# Altium schematic symbol library SR SCH Library V02.SchLib: 689 symbols (part 3 of 3)
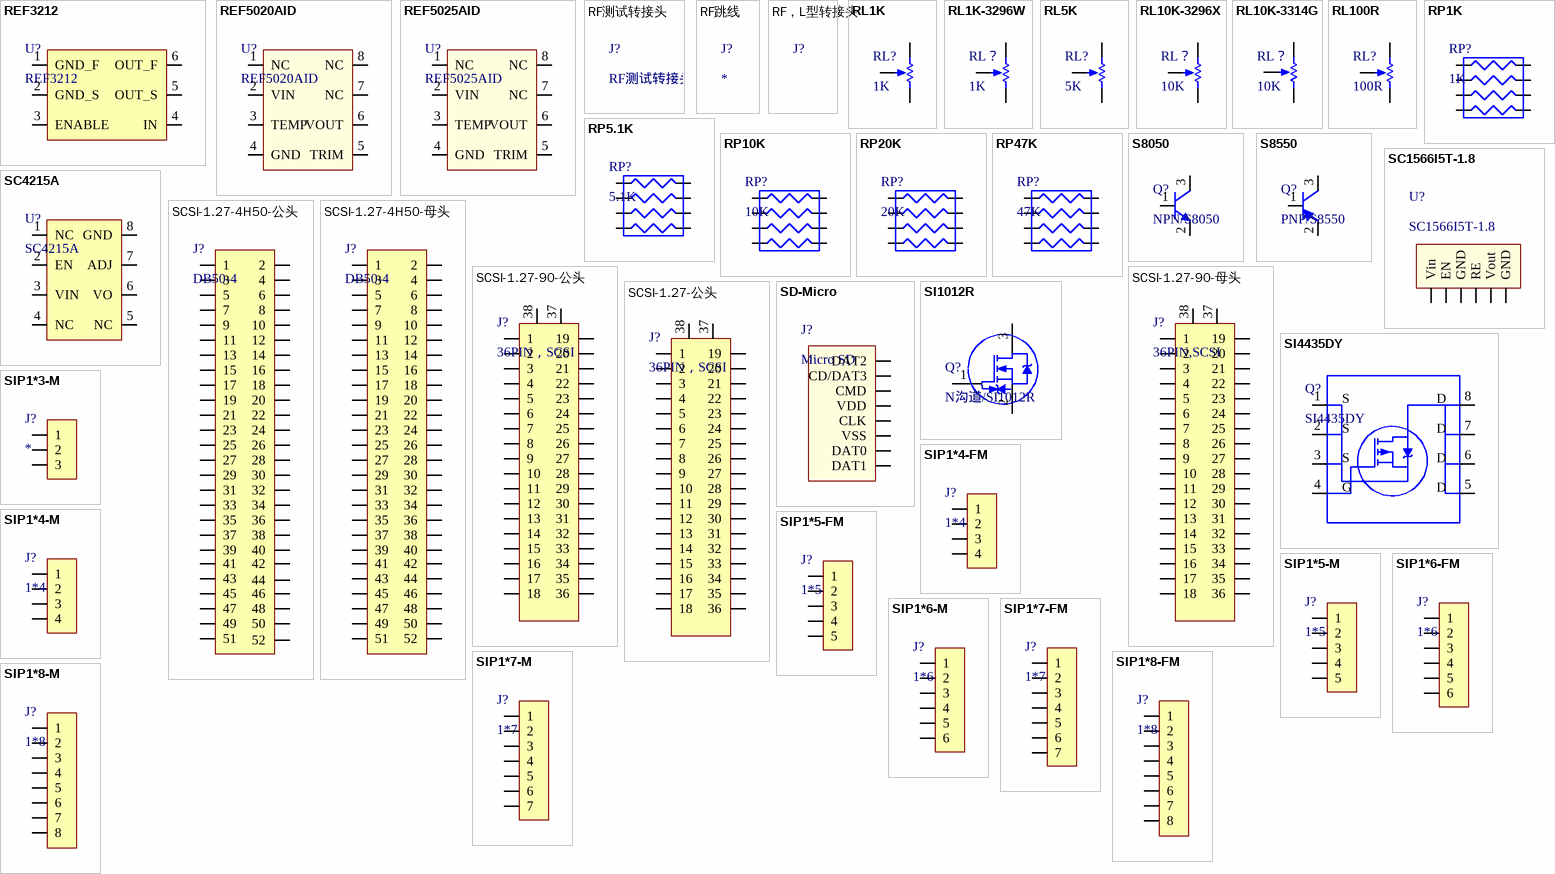
[diagram p20: symbols REF3212 to SIP1*8-M]

## SCSI-1.27-4H50-母头
designator J?, comment DB50-4
CONN,DB50-4排式，母头，SCSI连接器，1.27-4H50; 料号: 10701-00070-00; 品名: 线对板连接器
footprint SCSI母头-50P
pins: 1, 2, 3, 4, 5, 6, 7, 8, 9, 10, 11, 12, 13, 14, 15, 16, 17, 18, 19, 20, 21, 22, 23, 24, 25, 26, 27, 28, 29, 30, 31, 32, 33, 34, 35, 36, 37, 38, 39, 40, 41, 42, 43, 44, 45, 46, 47, 48, 49, 50, 51, 52

## SCSI-1.27-4H50-公头
designator J?, comment DB50-4
CONN,DB50-4排式，公头，SCSI连接器，1.27-4H50; 料号: 10701-00071-00; 品名: 线对板连接器
pins: 1, 2, 3, 4, 5, 6, 7, 8, 9, 10, 11, 12, 13, 14, 15, 16, 17, 18, 19, 20, 21, 22, 23, 24, 25, 26, 27, 28, 29, 30, 31, 32, 33, 34, 35, 36, 37, 38, 39, 40, 41, 42, 43, 44, 45, 46, 47, 48, 49, 50, 51, 52

## SCSI-1.27-90-母头
designator J?, comment 36PIN,SCSI
SCSI接头母头，36PIN，间距1.27mm，90度弯角插座; 料号: 10701-00075-00; 品名: 线对板连接器
footprint SCS母头-90
pins: 1, 2, 3, 4, 5, 6, 7, 8, 9, 10, 11, 12, 13, 14, 15, 16, 17, 18, 19, 20, 21, 22, 23, 24, 25, 26, 27, 28, 29, 30, 31, 32, 33, 34, 35, 36, 37, 38

## SCSI-1.27-90-公头
designator J?, comment 36PIN，SCSI
SCSI接头公头，36PIN，间距1.27mm，90度弯角插座; 料号: 10701-00038-00; 品名: 线对板连接器
footprint SCSI公头-90
pins: 1, 2, 3, 4, 5, 6, 7, 8, 9, 10, 11, 12, 13, 14, 15, 16, 17, 18, 19, 20, 21, 22, 23, 24, 25, 26, 27, 28, 29, 30, 31, 32, 33, 34, 35, 36, 37, 38

## SCSI-1.27-公头
designator J?, comment 36PIN，SCSI
SCSI接头公头，36PIN，间距1.27mm，锁螺丝固定式; 料号: 10701-00037-00; 品名: 线对板连接器
footprint SCSI公头
pins: 1, 2, 3, 4, 5, 6, 7, 8, 9, 10, 11, 12, 13, 14, 15, 16, 17, 18, 19, 20, 21, 22, 23, 24, 25, 26, 27, 28, 29, 30, 31, 32, 33, 34, 35, 36, 37, 38

## SD-Micro
designator J?, comment Micro SD
自弹Micro SD卡座，直立插件式，外焊; 料号: 10706-00001-0F; 品名: 卡座连接器
footprint TF-CARD
pins: 1 DAT2, 2 CD/DAT3, 3 CMD, 4 VDD, 5 CLK, 6 VSS, 7 DAT0, 8 DAT1

## SI1012R
designator Q?, comment N沟道/SI1012R
N沟道场效应管，SI1012R，SOT-416; 料号: 10503-00003-6J; 品名: N沟道场效应管
footprint SOT-416
pins: 1 G, 2 S, 3 D

## SI4435DY
designator Q?
IC,SI4435DY,SOP8; 料号: 10504-00004-00; 品名: P沟道MOSFET
footprint SOP8 (body:6mm)
pins: 1 S, 2 S, 3 S, 4 G, 5 D, 6 D, 7 D, 8 D

## SIP1*3-M
designator J?
单排针，1*3,2.54mm; 料号: 10701-00105-00; 品名: 线对板连接器
footprint SIP3-2.54mm
pins: 1, 2, 3

## SIP1*4-FM
designator J?, comment 1*4
单排母，1*4,2.54mm; 料号: 10701-00084-00; 品名: 线对板连接器
footprint SIP4-2.54mm
pins: 1, 2, 3, 4

## SIP1*4-M
designator J?, comment 1*4
单排针，1*4，2.54mm; 料号: 10701-00081-00; 品名: 线对板连接器
footprint SIP4-2.54mm
pins: 1, 2, 3, 4

## SIP1*5-FM
designator J?, comment 1*5
单排母，1*5,2.54mm; 料号: 10701-00085-00; 品名: 线对板连接器
pins: 1, 2, 3, 4, 5

## SIP1*5-M
designator J?, comment 1*5
单排针,1*5,2.54mm; 料号: 10701-00087-00; 品名: 线对板连接器
footprint SIP5-2.54mm
pins: 1, 2, 3, 4, 5

## SIP1*6-FM
designator J?, comment 1*6
单排母，1*6,2.54mm; 料号: 10701-00086-00; 品名: 线对板连接器
footprint SIP6-2.54mm
pins: 1, 2, 3, 4, 5, 6

## SIP1*6-M
designator J?, comment 1*6
单排针,1*6,2.54mm; 料号: 10701-00088-00; 品名: 线对板连接器
footprint SIP6-2.54mm
pins: 1, 2, 3, 4, 5, 6

## SIP1*7-FM
designator J?, comment 1*7
单排母,1*7,2.54mm; 料号: 10701-00090-00; 品名: 线对板连接器
footprint SIP7-2.54mm
pins: 1, 2, 3, 4, 5, 6, 7

## SIP1*7-M
designator J?, comment 1*7
单排针,1*7,2.54mm; 料号: 10701-00089-00; 品名: 线对板连接器
footprint SIP7-2.54mm
pins: 1, 2, 3, 4, 5, 6, 7

## SIP1*8-FM
designator J?, comment 1*8
单排母,1*8,2.54mm; 料号: 10701-00042-00; 品名: 线对板连接器
footprint SIP8-2.54mm
pins: 1, 2, 3, 4, 5, 6, 7, 8

## SIP1*8-M
designator J?, comment 1*8
单排针,1*8,2.54mm; 料号: 10701-00043-00; 品名: 线对板连接器
footprint SIP8-2.54mm
pins: 1, 2, 3, 4, 5, 6, 7, 8

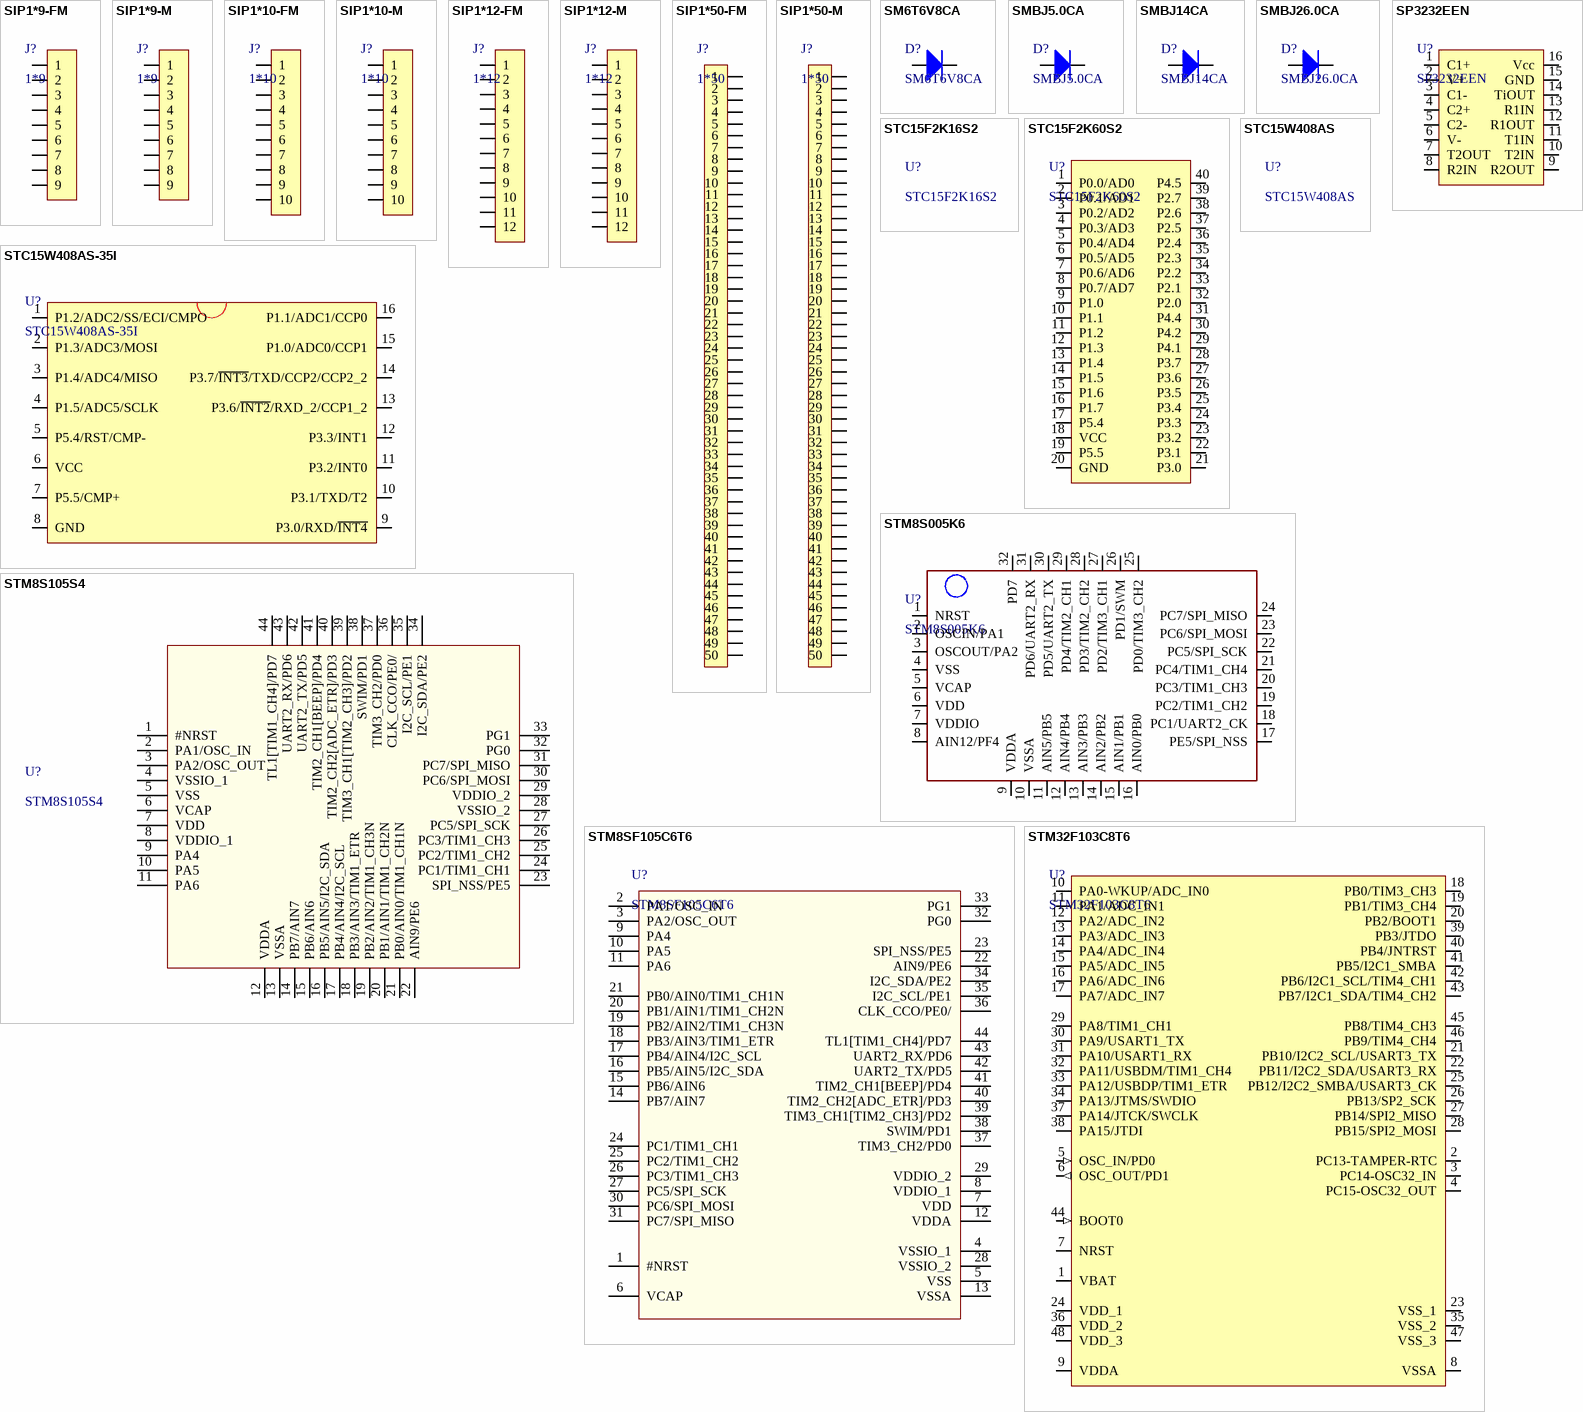
[diagram p16: symbols SIP1*9-FM to STM32F103C8T6]

## SIP1*9-FM
designator J?, comment 1*9
单排母,1*9,2.54mm; 料号: 10701-00044-00; 品名: 线对板连接器
footprint SIP9-2.54MM
pins: 1, 2, 3, 4, 5, 6, 7, 8, 9

## SIP1*9-M
designator J?, comment 1*9
单排针,1*9,2.54mm; 料号: 10701-00045-00; 品名: 线对板连接器
footprint SIP9-2.54MM
pins: 1, 2, 3, 4, 5, 6, 7, 8, 9

## SIP1*10-FM
designator J?, comment 1*10
单排母,1*10,2.54mm; 料号: 10701-00048-00; 品名: 线对板连接器
footprint SIP10-2.54mm
pins: 1, 2, 3, 4, 5, 6, 7, 8, 9, 10

## SIP1*10-M
designator J?, comment 1*10
单排针,1*10,2.54mm; 料号: 10701-00049-00; 品名: 线对板连接器
footprint SIP10-2.54mm
pins: 1, 2, 3, 4, 5, 6, 7, 8, 9, 10

## SIP1*12-FM
designator J?, comment 1*12
单排母,1*12,2.54mm; 料号: 10701-00052-00; 品名: 线对板连接器
footprint SIP12-2.54mm
pins: 1, 2, 3, 4, 5, 6, 7, 8, 9, 10, 11, 12

## SIP1*12-M
designator J?, comment 1*12
单排针,1*12,2.54mm; 料号: 10701-00053-00; 品名: 线对板连接器
footprint SIP12-2.54mm
pins: 1, 2, 3, 4, 5, 6, 7, 8, 9, 10, 11, 12

## SIP1*50-FM
designator J?, comment 1*50
单排母,1*50,2.54mm; 料号: 10701-00060-00; 品名: 线对板连接器
footprint SIP50-2.54MM
pins: 1, 2, 3, 4, 5, 6, 7, 8, 9, 10, 11, 12, 13, 14, 15, 16, 17, 18, 19, 20, 21, 22, 23, 24, 25, 26, 27, 28, 29, 30, 31, 32, 33, 34, 35, 36, 37, 38, 39, 40, 41, 42, 43, 44, 45, 46, 47, 48, 49, 50

## SIP1*50-M
designator J?, comment 1*50
单排针,1*50,2.54mm; 料号: 10701-00061-00; 品名: 线对板连接器
footprint SIP50-2.54MM
pins: 1, 2, 3, 4, 5, 6, 7, 8, 9, 10, 11, 12, 13, 14, 15, 16, 17, 18, 19, 20, 21, 22, 23, 24, 25, 26, 27, 28, 29, 30, 31, 32, 33, 34, 35, 36, 37, 38, 39, 40, 41, 42, 43, 44, 45, 46, 47, 48, 49, 50

## SM6T6V8CA
designator D?
TVS管，SM6T6V8CA，DO-214AA; 料号: 10405-00002-3H; 品名: TVS管
footprint DO-214AA(SMB) (稳压管)
pins: 1 A, 2 K

## SMBJ5.0CA
designator D?
TVS管，SMBJ5.0CA，5V，DO-214AA; 料号: 10405-00006-00; 品名: TVS管
footprint DO-214AA(SMB) (稳压管)
pins: 1 A, 2 K

## SMBJ14CA
designator D?
TVS管，SMBJ14CA，14V，DO-214AA; 料号: 10405-00005-6J; 品名: TVS管
footprint DO-214AA(SMB) (稳压管)
pins: 1 A, 2 K

## SMBJ26.0CA
designator D?
TVS管，SMBJ26.0CA，5V，DO-214AA; 料号: 10405-00009-00; 品名: TVS管
footprint DO-214AA(SMB) (稳压管)
pins: 1 A, 2 K

## SP3232EEN
designator U?
IC，SP3232EEN，SOP16; 料号: 10606-00002-1L; 品名: 接口芯片
footprint SOP16 (引脚中心距50mil)
pins: 1 C1+, 2 V+, 3 C1-, 4 C2+, 5 C2-, 6 V-, 7 T2OUT, 8 R2IN, 9 R2OUT, 10 T2IN, 11 T1IN, 12 R1OUT, 13 R1IN, 14 TiOUT, 15 GND, 16 Vcc

## STC15F2K16S2
designator U?
STC15F2K16S2,LQFP32; 料号: 10601-00014-7H; 品名: MCU
footprint LQFP32

## STC15F2K60S2
designator U?
MCU,STC15F2K16S2,LQFP48; 料号: 10601-00010-7H; 品名: MCU
footprint LQFP48
pins: 1 P0.0/AD0, 2 P0.1/AD1, 3 P0.2/AD2, 4 P0.3/AD3, 5 P0.4/AD4, 6 P0.5/AD5, 7 P0.6/AD6, 8 P0.7/AD7, 9 P1.0, 10 P1.1, 11 P1.2, 12 P1.3, 13 P1.4, 14 P1.5, 15 P1.6, 16 P1.7, 17 P5.4, 18 VCC, 19 P5.5, 20 GND, 21 P3.0, 22 P3.1, 23 P3.2, 24 P3.3, 25 P3.4, 26 P3.5, 27 P3.6, 28 P3.7, 29 P4.1, 30 P4.2, 31 P4.4, 32 P2.0, 33 P2.1, 34 P2.2, 35 P2.3, 36 P2.4, 37 P2.5, 38 P2.6, 39 P2.7, 40 P4.5

## STC15W408AS
designator U?
MCU，STC15W408AS，QFN28-5*5; 料号: 10601-00013-7H; 品名: MCU

## STC15W408AS-35I
designator U?
MCU，STC15W408AS-35I，SOP16; 料号: 10601-00011-7H; 品名: MCU
footprint SOP16 (引脚中心距50mil)
pins: 1 P1.2/ADC2/SS/ECI/CMPO, 2 P1.3/ADC3/MOSI, 3 P1.4/ADC4/MISO, 4 P1.5/ADC5/SCLK, 5 P5.4/RST/CMP-, 6 VCC, 7 P5.5/CMP+, 8 GND, 9 P3.0/RXD/~{INT4}, 10 P3.1/TXD/T2, 11 P3.2/INT0, 12 P3.3/INT1, 13 P3.6/~{INT2}/RXD_2/CCP1_2, 14 P3.7/~{INT3}/TXD/CCP2/CCP2_2, 15 P1.0/ADC0/CCP1, 16 P1.1/ADC1/CCP0

## STM8S005K6
designator U?
MCU，STM8S005K6，LQFP32; 料号: 10601-00003-3H; 品名: MCU
footprint LQFP32
pins: 1 NRST, 2 OSCIN/PA1, 3 OSCOUT/PA2, 4 VSS, 5 VCAP, 6 VDD, 7 VDDIO, 8 AIN12/PF4, 9 VDDA, 10 VSSA, 11 AIN5/PB5, 12 AIN4/PB4, 13 AIN3/PB3, 14 AIN2/PB2, 15 AIN1/PB1, 16 AIN0/PB0, 17 PE5/SPI_NSS, 18 PC1/UART2_CK, 19 PC2/TIM1_CH2, 20 PC3/TIM1_CH3, 21 PC4/TIM1_CH4, 22 PC5/SPI_SCK, 23 PC6/SPI_MOSI, 24 PC7/SPI_MISO, 25 PD0/TIM3_CH2, 26 PD1/SWM, 27 PD2/TIM3_CH1, 28 PD3/TIM2_CH2, 29 PD4/TIM2_CH1, 30 PD5/UART2_TX, 31 PD6/UART2_RX, 32 PD7

## STM8S105S4
designator U?
MCU，STM8S105S4，LQFP44; 料号: 10601-00045-3H; 品名: MCU
footprint LQFP44
pins: 1 #NRST, 2 PA1/OSC_IN, 3 PA2/OSC_OUT, 4 VSSIO_1, 5 VSS, 6 VCAP, 7 VDD, 8 VDDIO_1, 9 PA4, 10 PA5, 11 PA6, 12 VDDA, 13 VSSA, 14 PB7/AIN7, 15 PB6/AIN6, 16 PB5/AIN5/I2C_SDA, 17 PB4/AIN4/I2C_SCL, 18 PB3/AIN3/TIM1_ETR, 19 PB2/AIN2/TIM1_CH3N, 20 PB1/AIN1/TIM1_CH2N, 21 PB0/AIN0/TIM1_CH1N, 22 AIN9/PE6, 23 SPI_NSS/PE5, 24 PC1/TIM1_CH1, 25 PC2/TIM1_CH2, 26 PC3/TIM1_CH3, 27 PC5/SPI_SCK, 28 VSSIO_2, 29 VDDIO_2, 30 PC6/SPI_MOSI, 31 PC7/SPI_MISO, 32 PG0, 33 PG1, 34 I2C_SDA/PE2, 35 I2C_SCL/PE1, 36 CLK_CCO/PE0/, 37 TIM3_CH2/PD0, 38 SWIM/PD1, 39 TIM3_CH1[TIM2_CH3]/PD2, 40 TIM2_CH2[ADC_ETR]/PD3, 41 TIM2_CH1[BEEP]/PD4, 42 UART2_TX/PD5, 43 UART2_RX/PD6, 44 TL1[TIM1_CH4]/PD7

## STM8SF105C6T6
designator U?
MCU,STM8SF105C6T6,LQFP44; 料号: 10601-00045-3H; 品名: MCU
footprint LQFP44
pins: 1 #NRST, 2 PA1/OSC_IN, 3 PA2/OSC_OUT, 4 VSSIO_1, 5 VSS, 6 VCAP, 7 VDD, 8 VDDIO_1, 9 PA4, 10 PA5, 11 PA6, 12 VDDA, 13 VSSA, 14 PB7/AIN7, 15 PB6/AIN6, 16 PB5/AIN5/I2C_SDA, 17 PB4/AIN4/I2C_SCL, 18 PB3/AIN3/TIM1_ETR, 19 PB2/AIN2/TIM1_CH3N, 20 PB1/AIN1/TIM1_CH2N, 21 PB0/AIN0/TIM1_CH1N, 22 AIN9/PE6, 23 SPI_NSS/PE5, 24 PC1/TIM1_CH1, 25 PC2/TIM1_CH2, 26 PC3/TIM1_CH3, 27 PC5/SPI_SCK, 28 VSSIO_2, 29 VDDIO_2, 30 PC6/SPI_MOSI, 31 PC7/SPI_MISO, 32 PG0, 33 PG1, 34 I2C_SDA/PE2, 35 I2C_SCL/PE1, 36 CLK_CCO/PE0/, 37 TIM3_CH2/PD0, 38 SWIM/PD1, 39 TIM3_CH1[TIM2_CH3]/PD2, 40 TIM2_CH2[ADC_ETR]/PD3, 41 TIM2_CH1[BEEP]/PD4, 42 UART2_TX/PD5, 43 UART2_RX/PD6, 44 TL1[TIM1_CH4]/PD7

## STM32F103C8T6
designator U?
MCU，STM32F103C8T6，LQFP48; 料号: 10601-00002-3H; 品名: MCU
footprint LQFP48
pins: 1 VBAT (power), 2 PC13-TAMPER-RTC (io), 3 PC14-OSC32_IN (io), 4 PC15-OSC32_OUT (io), 5 OSC_IN/PD0 (in), 6 OSC_OUT/PD1 (out), 7 NRST (io), 8 VSSA (power), 9 VDDA (power), 10 PA0-WKUP/ADC_IN0 (io), 11 PA1/ADC_IN1 (io), 12 PA2/ADC_IN2 (io), 13 PA3/ADC_IN3 (io), 14 PA4/ADC_IN4 (io), 15 PA5/ADC_IN5 (io), 16 PA6/ADC_IN6 (io), 17 PA7/ADC_IN7 (io), 18 PB0/TIM3_CH3 (io), 19 PB1/TIM3_CH4 (io), 20 PB2/BOOT1 (io), 21 PB10/I2C2_SCL/USART3_TX (io), 22 PB11/I2C2_SDA/USART3_RX (io), 23 VSS_1 (power), 24 VDD_1 (power), 25 PB12/I2C2_SMBA/USART3_CK (io), 26 PB13/SP2_SCK (io), 27 PB14/SPI2_MISO (io), 28 PB15/SPI2_MOSI (io), 29 PA8/TIM1_CH1 (io), 30 PA9/USART1_TX (io), 31 PA10/USART1_RX (io), 32 PA11/USBDM/TIM1_CH4 (io), 33 PA12/USBDP/TIM1_ETR (io), 34 PA13/JTMS/SWDIO (io), 35 VSS_2 (power), 36 VDD_2 (power), 37 PA14/JTCK/SWCLK (io), 38 PA15/JTDI (io), 39 PB3/JTDO (io), 40 PB4/JNTRST (io), 41 PB5/I2C1_SMBA (io), 42 PB6/I2C1_SCL/TIM4_CH1 (io), 43 PB7/I2C1_SDA/TIM4_CH2 (io), 44 BOOT0 (in), 45 PB8/TIM4_CH3 (io), 46 PB9/TIM4_CH4 (io), 47 VSS_3 (power), 48 VDD_3 (power)

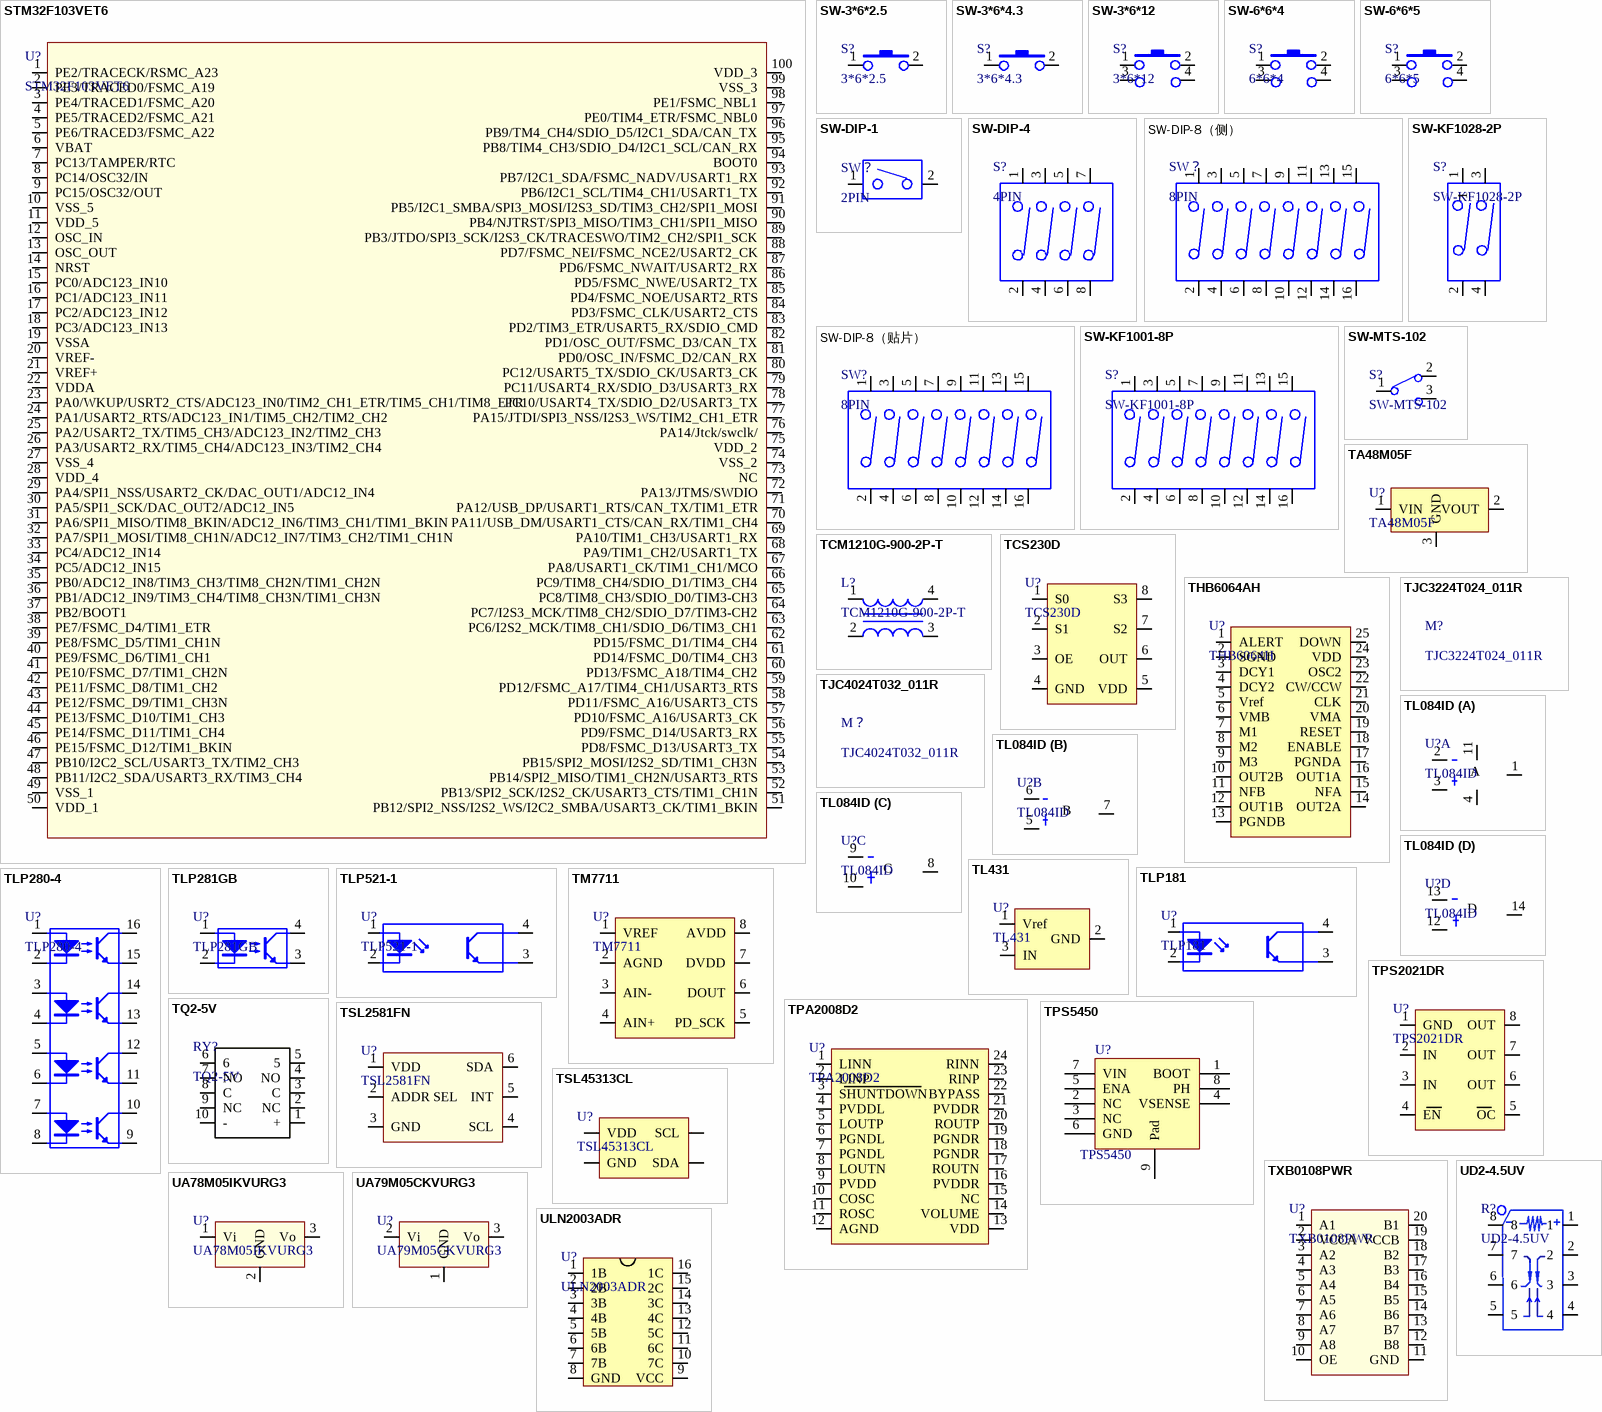
[diagram p17: symbols STM32F103VET6 to ULN2003ADR]

## STM32F103VET6
designator U?
MCU，STM32F103VET6，LQFP100; 料号: 10601-00001-3H; 品名: MCU
footprint LQFP100
pins: 1 PE2/TRACECK/RSMC_A23, 2 PE3/TRACED0/FSMC_A19, 3 PE4/TRACED1/FSMC_A20, 4 PE5/TRACED2/FSMC_A21, 5 PE6/TRACED3/FSMC_A22, 6 VBAT, 7 PC13/TAMPER/RTC, 8 PC14/OSC32/IN, 9 PC15/OSC32/OUT, 10 VSS_5, 11 VDD_5, 12 OSC_IN, 13 OSC_OUT, 14 NRST, 15 PC0/ADC123_IN10, 16 PC1/ADC123_IN11, 17 PC2/ADC123_IN12, 18 PC3/ADC123_IN13, 19 VSSA, 20 VREF-, 21 VREF+, 22 VDDA, 23 PA0/WKUP/USRT2_CTS/ADC123_IN0/TIM2_CH1_ETR/TIM5_CH1/TIM8_ETR, 24 PA1/USART2_RTS/ADC123_IN1/TIM5_CH2/TIM2_CH2, 25 PA2/USART2_TX/TIM5_CH3/ADC123_IN2/TIM2_CH3, 26 PA3/USART2_RX/TIM5_CH4/ADC123_IN3/TIM2_CH4, 27 VSS_4, 28 VDD_4, 29 PA4/SPI1_NSS/USART2_CK/DAC_OUT1/ADC12_IN4, 30 PA5/SPI1_SCK/DAC_OUT2/ADC12_IN5, 31 PA6/SPI1_MISO/TIM8_BKIN/ADC12_IN6/TIM3_CH1/TIM1_BKIN, 32 PA7/SPI1_MOSI/TIM8_CH1N/ADC12_IN7/TIM3_CH2/TIM1_CH1N, 33 PC4/ADC12_IN14, 34 PC5/ADC12_IN15, 35 PB0/ADC12_IN8/TIM3_CH3/TIM8_CH2N/TIM1_CH2N, 36 PB1/ADC12_IN9/TIM3_CH4/TIM8_CH3N/TIM1_CH3N, 37 PB2/BOOT1, 38 PE7/FSMC_D4/TIM1_ETR, 39 PE8/FSMC_D5/TIM1_CH1N, 40 PE9/FSMC_D6/TIM1_CH1, 41 PE10/FSMC_D7/TIM1_CH2N, 42 PE11/FSMC_D8/TIM1_CH2, 43 PE12/FSMC_D9/TIM1_CH3N, 44 PE13/FSMC_D10/TIM1_CH3, 45 PE14/FSMC_D11/TIM1_CH4, 46 PE15/FSMC_D12/TIM1_BKIN, 47 PB10/I2C2_SCL/USART3_TX/TIM2_CH3, 48 PB11/I2C2_SDA/USART3_RX/TIM3_CH4, 49 VSS_1, 50 VDD_1, 51 PB12/SPI2_NSS/I2S2_WS/I2C2_SMBA/USART3_CK/TIM1_BKIN, 52 PB13/SPI2_SCK/I2S2_CK/USART3_CTS/TIM1_CH1N, 53 PB14/SPI2_MISO/TIM1_CH2N/USART3_RTS, 54 PB15/SPI2_MOSI/I2S2_SD/TIM1_CH3N, 55 PD8/FSMC_D13/USART3_TX, 56 PD9/FSMC_D14/USART3_RX, 57 PD10/FSMC_A16/USART3_CK, 58 PD11/FSMC_A16/USART3_CTS, 59 PD12/FSMC_A17/TIM4_CH1/USART3_RTS, 60 PD13/FSMC_A18/TIM4_CH2, 61 PD14/FSMC_D0/TIM4_CH3, 62 PD15/FSMC_D1/TIM4_CH4, 63 PC6/I2S2_MCK/TIM8_CH1/SDIO_D6/TIM3_CH1, 64 PC7/I2S3_MCK/TIM8_CH2/SDIO_D7/TIM3-CH2, 65 PC8/TIM8_CH3/SDIO_D0/TIM3-CH3, 66 PC9/TIM8_CH4/SDIO_D1/TIM3_CH4, 67 PA8/USART1_CK/TIM1_CH1/MCO, 68 PA9/TIM1_CH2/USART1_TX, 69 PA10/TIM1_CH3/USART1_RX, 70 PA11/USB_DM/USART1_CTS/CAN_RX/TIM1_CH4, 71 PA12/USB_DP/USART1_RTS/CAN_TX/TIM1_ETR, 72 PA13/JTMS/SWDIO, 73 NC, 74 VSS_2, 75 VDD_2, 76 PA14/Jtck/swclk/, 77 PA15/JTDI/SPI3_NSS/I2S3_WS/TIM2_CH1_ETR, 78 PC10/USART4_TX/SDIO_D2/USART3_TX, 79 PC11/USART4_RX/SDIO_D3/USART3_RX, 80 PC12/USART5_TX/SDIO_CK/USART3_CK, 81 PD0/OSC_IN/FSMC_D2/CAN_RX, 82 PD1/OSC_OUT/FSMC_D3/CAN_TX, 83 PD2/TIM3_ETR/USART5_RX/SDIO_CMD, 84 PD3/FSMC_CLK/USART2_CTS, 85 PD4/FSMC_NOE/USART2_RTS, 86 PD5/FSMC_NWE/USART2_TX, 87 PD6/FSMC_NWAIT/USART2_RX, 88 PD7/FSMC_NEI/FSMC_NCE2/USART2_CK, 89 PB3/JTDO/SPI3_SCK/I2S3_CK/TRACESWO/TIM2_CH2/SPI1_SCK, 90 PB4/NJTRST/SPI3_MISO/TIM3_CH1/SPI1_MISO, 91 PB5/I2C1_SMBA/SPI3_MOSI/I2S3_SD/TIM3_CH2/SPI1_MOSI, 92 PB6/I2C1_SCL/TIM4_CH1/USART1_TX, 93 PB7/I2C1_SDA/FSMC_NADV/USART1_RX, 94 BOOT0, 95 PB8/TIM4_CH3/SDIO_D4/I2C1_SCL/CAN_RX, 96 PB9/TM4_CH4/SDIO_D5/I2C1_SDA/CAN_TX, 97 PE0/TIM4_ETR/FSMC_NBL0, 98 PE1/FSMC_NBL1, 99 VSS_3, 100 VDD_3

## SW-3*6*2.5
designator S?, comment 3*6*2.5
轻触开关，3*6*2.5  2PIN 贴片; 料号: 10801-00004-00; 品名: 轻触开关
footprint 小按键
pins: 1, 2

## SW-3*6*4.3
designator S?, comment 3*6*4.3
轻触开关，3*6*4.3  2PIN 立式直插; 料号: 10801-00005-00; 品名: 轻触开关
footprint 小按键插件
pins: 1, 2

## SW-3*6*12
designator S?, comment 3*6*12
轻触开关，3*6*12 4PIN 立式直插; 料号: 10801-00003-00; 品名: 轻触开关
footprint SW3565 (按键)
pins: 1, 2, 3, 4

## SW-6*6*4
designator S?, comment 6*6*4
轻触开关，6*6*4  4PIN 立式直插; 料号: 10801-00002-00; 品名: 轻触开关
footprint SW6545 (按键)
pins: 1, 2, 3, 4

## SW-6*6*5
designator S?, comment 6*6*5
轻触开关，6*6*5  4PIN 立式直插; 料号: 10801-00001-00; 品名: 轻触开关
footprint SW6545 (按键)
pins: 1, 2, 3, 4

## SW-DIP-1
designator SW？, comment 2PIN
拨码开关，2.54mm脚距，1位，10mm*4mm，直插2脚; 料号: 10802-00006-00; 品名: 拨码开关
footprint KF10*4
pins: 1, 2

## SW-DIP-4
designator S?, comment 4PIN
拨码开关，2.54mm 4PIN 贴片; 料号: 10802-00002-00; 品名: 拨码开关
footprint KF1001-4(SMD，2.54mm)
pins: 1, 2, 3, 4, 5, 6, 7, 8

## SW-DIP-8（侧）
designator SW？, comment 8PIN
8位拨码开关,2.54间距,拨码开关侧拨; 料号: 10802-00005-00; 品名: 拨码开关
footprint KF1001-8（2.54mm） (拨码开关)
pins: 1, 2, 3, 4, 5, 6, 7, 8, 9, 10, 11, 12, 13, 14, 15, 16

## SW-DIP-8（贴片）
designator SW?, comment 8PIN
拨码开关，2.54mm 8PIN 贴片; 料号: 10802-00003-00; 品名: 拨码开关
footprint KF1001-8 (SMD，2.54mm) (拨码开关)
pins: 1, 2, 3, 4, 5, 6, 7, 8, 9, 10, 11, 12, 13, 14, 15, 16

## SW-KF1001-8P
designator S?
拨码开关，KF1001-8P，2.54mm，插件; 料号: 10802-00004-00; 品名: 拨码开关
footprint KF1001-8（2.54mm） (拨码开关)
pins: 1, 2, 3, 4, 5, 6, 7, 8, 9, 10, 11, 12, 13, 14, 15, 16

## SW-KF1028-2P
designator S?
拨码开关，KF1028-2P，1.27mm; 料号: 10802-00001-00; 品名: 拨码开关
footprint KF1028-2P（1.27mm）
pins: 1, 2, 3, 4

## SW-MTS-102
designator S?
摇头开关，MTS-102，3脚2档; 料号: 10803-00001-00; 品名: 摇头开关
footprint MTS-102
pins: 1, 2, 3

## TA48M05F
designator U?
IC，TA48M05F，TO-252; 料号: 10604-00026-9J; 品名: 电源芯片
footprint TO-252
pins: 1 VIN, 2 VOUT, 3 GND

## TCM1210G-900-2P-T
designator L?
共模电感，TCM1210G-900-2P-T，100mA，90R，1210L; 料号: 10303-09001-00; 品名: 共模电感
footprint TCM1210G (Chip Capacitor; Body 1.75x 0.85mm (LxW typ))
pins: 1, 2, 3, 4

## TCS230D
designator U?
IC，TCS230D，SOP8; 料号: 10610-00003-4K; 品名: 传感器
footprint SOP8 (body:6mm)
pins: 1 S0, 2 S1, 3 OE, 4 GND, 5 VDD, 6 OUT, 7 S2, 8 S3

## THB6064AH
designator U?, comment THB6064H
IC，THB6064H，HZIP25-P-1.27; 料号: 10611-00003-9J; 品名: ASIC
footprint HZIP25-P-1.27
pins: 1 ALERT, 2 SGND, 3 DCY1, 4 DCY2, 5 Vref, 6 VMB, 7 M1, 8 M2, 9 M3, 10 OUT2B, 11 NFB, 12 OUT1B, 13 PGNDB, 14 OUT2A, 15 NFA, 16 OUT1A, 17 PGNDA, 18 ENABLE, 19 RESET, 20 VMA, 21 CLK, 22 CW/CCW, 23 OSC2, 24 VDD, 25 DOWN

## TJC3224T024_011R
designator M?
TFT显示模块，TJC3224T024_011R，串口，2.4寸; 料号: 11103-00002-00; 品名: 显示模块

## TJC4024T032_011R
designator M？
TFT显示模块，TJC4024T032_011R，串口，3.2寸; 料号: 11103-00001-00; 品名: 显示模块

## TL084ID
designator U?
IC，TL084ID，SOP14; 料号: 10602-00010-9G; 品名: 放大器
footprint SOP14
part A pins: 1 Output1, 2 Input1-, 3 Input1+, 4 VCC, 11 GND
part B pins: 5 Input2+, 6 Input2-, 7 Output2
part C pins: 8 Output3, 9 Input3-, 10 Input3+
part D pins: 12 Input4+, 13 Input4-, 14 Output4
part A text: A
part B text: B
part C text: C
part D text: D

## TL431
designator U?
IC，TL431，SOT23; 料号: 10604-00014-9G; 品名: 电源芯片
footprint SOT-23
pins: 1 Vref, 2 GND, 3 IN

## TLP181
designator U?
光耦，TLP181，SOP4; 料号: 10609-00009-9J; 品名: 光耦
footprint SOP4-2.54 (引脚中心距100mil)
pins: 1 A, 2 K, 3 E, 4 C

## TLP280-4
designator U?
光耦，TLP280-4，SOP16; 料号: 10609-00001-9J; 品名: 光耦
footprint SOP16 (引脚中心距50mil)
pins: 1 LED Anode, 2 LED Cathode, 3 LED Anode, 4 LED Cathode, 5 LED Anode, 6 LED Cathode, 7 LED Anode, 8 LED Cathode, 9 Emitter, 10 Collector, 11 Emitter, 12 Collector, 13 Emitter, 14 Collector, 15 Emitter, 16 Collector

## TLP281GB
designator U?
光耦，TLP281GB，SOP4-2.54; 料号: 10609-00002-00; 品名: 光耦
footprint SOP4-2.54 (引脚中心距100mil)
pins: 1 LED Anode, 2 LED Cathode, 3 Emitter, 4 Collector

## TLP521-1
designator U?
光耦，TLP521-1，SOP4; 料号: 10609-00007-9J; 品名: 光耦
footprint SOP4-2.54 (引脚中心距100mil)
pins: 1 A, 2 K, 3 E, 4 C

## TM7711
designator U?
IC，TM7711，SOP8; 料号: 10605-00001-00; 品名: 数据转换芯片
footprint SOP8 (body:6mm)
pins: 1 VREF, 2 AGND, 3 AIN-, 4 AIN+, 5 PD_SCK, 6 DOUT, 7 DVDD, 8 AVDD

## TPA2008D2
designator U?
IC，TPA2008D2，HTSSOP-24; 料号: 10602-00016-00; 品名: 放大器
footprint HTSSOP24
pins: 1 LINN, 2 LINP, 3 SHUNTDOWN, 4 PVDDL, 5 LOUTP, 6 PGNDL, 7 PGNDL, 8 LOUTN, 9 PVDD, 10 COSC, 11 ROSC, 12 AGND, 13 VDD, 14 VOLUME, 15 NC, 16 PVDDR, 17 ROUTN, 18 PGNDR, 19 PGNDR, 20 ROUTP, 21 PVDDR, 22 BYPASS, 23 RINP, 24 RINN

## TPS2021DR
designator U?
TPS2021DR，SOP8; 料号: 10608-00001-9G; 品名: 电子开关
footprint SOP8 (body:6mm)
pins: 1 GND, 2 IN, 3 IN, 4 EN, 5 OC, 6 OUT, 7 OUT, 8 OUT

## TPS5450
designator U?
线性稳压器，SOIC-8封装，; 产品料号: 10604-00141-00; 品名: 电源芯片
footprint SOIC8-P (Thermol Pad)
pins: 1 BOOT, 2 NC, 3 NC, 4 VSENSE, 5 ENA, 6 GND, 7 VIN, 8 PH, 9 Pad

## TQ2-5V
designator RY?
继电器，TQ2-5V,DIP10， 额定负载1A 30VDC,0.5A 125VAC,触点形式双刀双闸; 料号: 10901-00006-00; 品名: 信号继电器
pins: 1 +, 2 NC, 3 C, 4 NO, 5, 6, 7 NO, 8 C, 9 NC, 10 -

## TSL2581FN
designator U?
IC，TSL2581FN，DFN6; 料号: 10610-00001-4K; 品名: 传感器
footprint DFN6
pins: 1 VDD, 2 ADDR SEL, 3 GND, 4 SCL, 5 INT, 6 SDA

## TSL45313CL
designator U?
IC，TSL45313CL,CL-4; 料号: 10610-00006-00; 品名: 传感器
footprint CL-4
pins: 1 VDD, 2 GND, 3 SDA, 4 SCL

## TXB0108PWR
designator U?
IC,TXB0108PWR,TSSOP20; 料号: 10607-00007-9G; 品名: 逻辑芯片
footprint TSSOP-20
pins: 1 A1, 2 VCCA, 3 A2, 4 A3, 5 A4, 6 A5, 7 A6, 8 A7, 9 A8, 10 OE, 11 GND, 12 B8, 13 B7, 14 B6, 15 B5, 16 B4, 17 B3, 18 B2, 19 VCCB, 20 B1

## UA78M05IKVURG3
designator U?
IC，UA78M05IKVURG3,TO-252; 料号: 10604-00047-9G; 品名: 电源芯片
footprint TO-252 DPAK
pins: 1 Vi, 2 GND, 3 Vo

## UA79M05CKVURG3
designator U?
IC，UA79M05CKVURG3,TO-252; 料号: 10604-00048-9G; 品名: 电源芯片
footprint TO-252 DPAK
pins: 1 GND, 2 Vi, 3 Vo

## UD2-4.5UV
designator R?
继电器，贴片，NEC UD2-4.5UV ，10.5*6.5*5.5mm; 料号: 10901-00002-8J; 品名: 信号继电器
footprint UD2-4.5NU
pins: 1, 2, 3, 4, 5, 6, 7, 8

## ULN2003ADR
designator U?
IC，ULN2003ADR，SOP16; 料号: 10611-00006-9G; 品名: ASIC
footprint SOP16 (引脚中心距50mil)
pins: 1 1B, 2 2B, 3 3B, 4 4B, 5 5B, 6 6B, 7 7B, 8 GND, 9 VCC, 10 7C, 11 6C, 12 5C, 13 4C, 14 3C, 15 2C, 16 1C

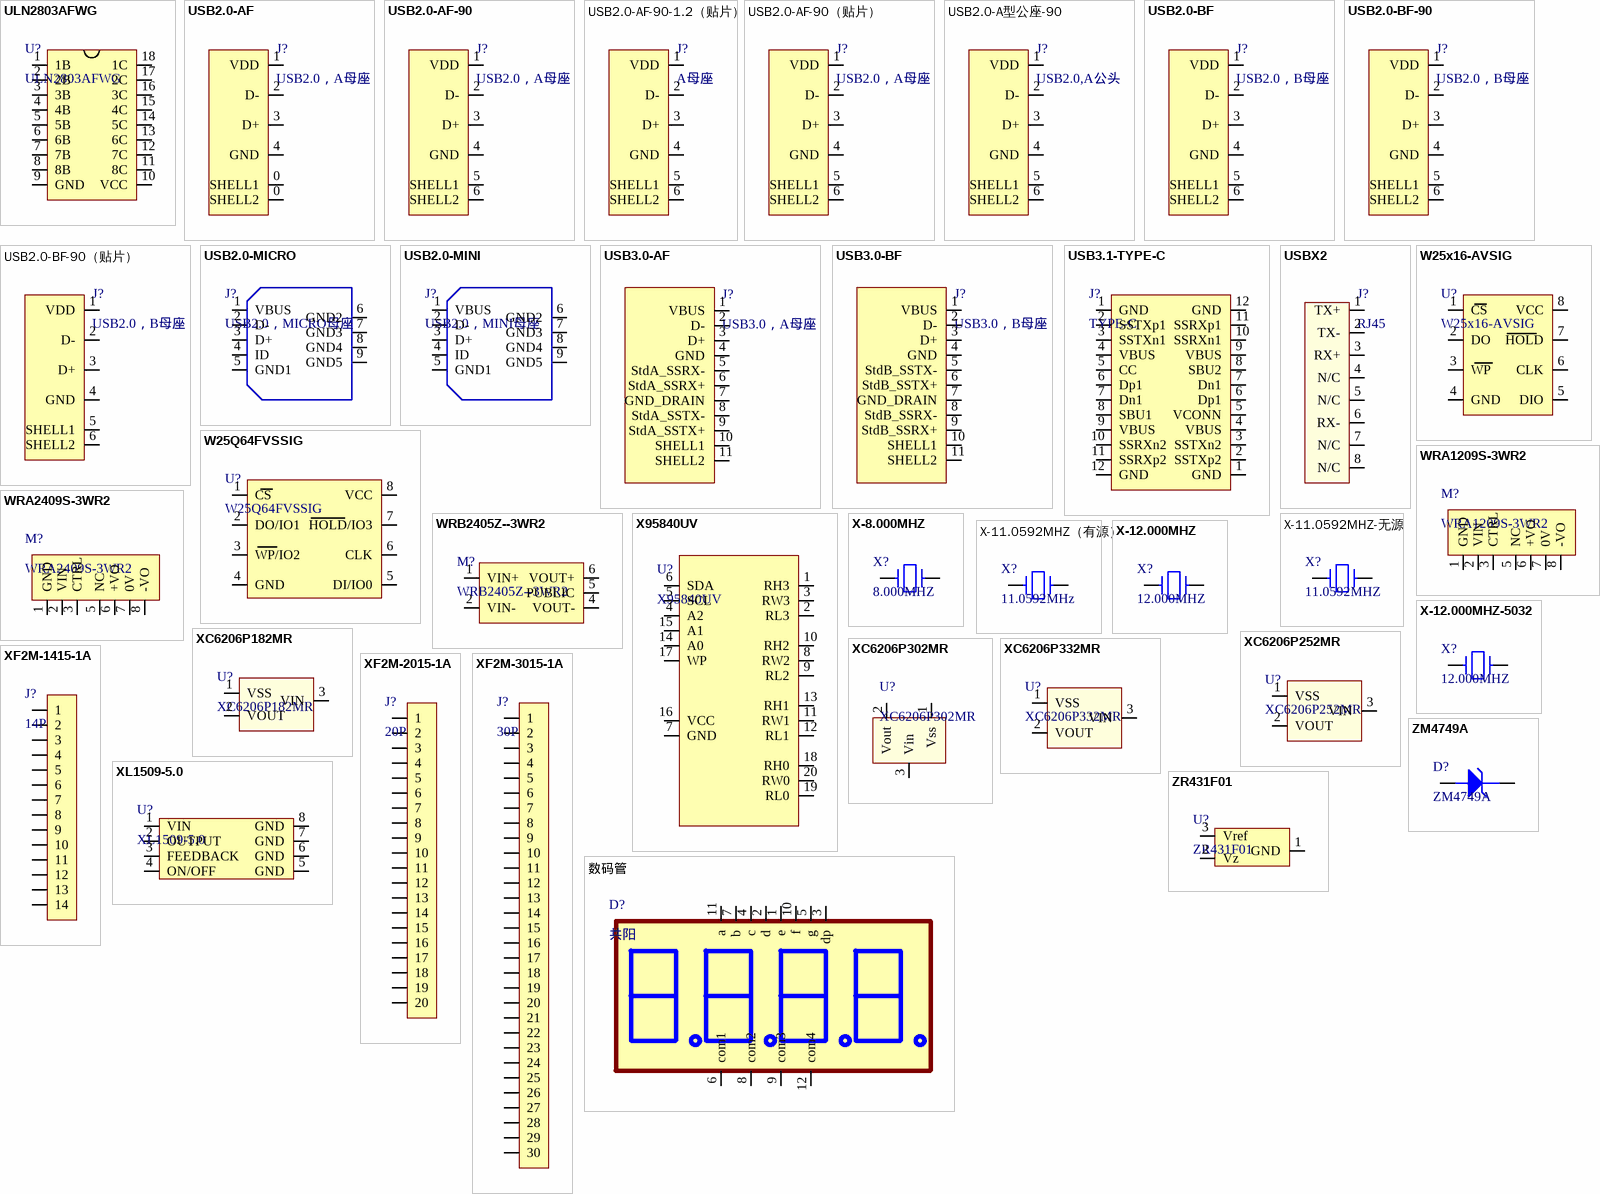
[diagram p18: symbols ULN2803AFWG to 数码管]

## ULN2803AFWG
designator U?
IC，ULN2803AFWG，SOP18; 料号: 10611-00005-9J; 品名: ASIC
footprint SOP18 (引脚中心距50mil)
pins: 1 1B, 2 2B, 3 3B, 4 4B, 5 5B, 6 6B, 7 7B, 8 8B, 9 GND, 10 VCC, 11 8C, 12 7C, 13 6C, 14 5C, 15 4C, 16 3C, 17 2C, 18 1C

## USB2.0-AF
designator J?, comment USB2.0，A母座
USB插座,A型母座,USB2.0,直立插件焊接式; 料号: 10705-00002-00; 品名: 数据接口连接器
footprint USB2.0-AF(直立)
pins: 0 SHELL1, 0 SHELL2, 1 VDD, 2 D-, 3 D+, 4 GND

## USB2.0-AF-90
designator J?, comment USB2.0，A母座
USB插座,A型母座,USB2.0,90度插件焊接式; 料号: 10705-00001-00; 品名: 数据接口连接器
footprint USB2.0-AF
pins: 1 VDD, 2 D-, 3 D+, 4 GND, 5 SHELL1, 6 SHELL2

## USB2.0-AF-90-1.2（贴片）
designator J?, comment A母座
USB插座，有卷边贴片90度A型USB2.0母座，定位柱：1.2mm; 料号: 10705-00014-00; 品名: 数据接口连接器
pins: 1 VDD, 2 D-, 3 D+, 4 GND, 5 SHELL1, 6 SHELL2

## USB2.0-AF-90（贴片）
designator J?, comment USB2.0，A母座
USB插座,A型母座,USB2.0,90度贴片焊接式; 料号: 10705-00003-00; 品名: 数据接口连接器
footprint USB2.0-AF(贴片) (Footprint not found)
pins: 1 VDD, 2 D-, 3 D+, 4 GND, 5 SHELL1, 6 SHELL2

## USB2.0-A型公座-90
designator J?, comment USB2.0,A公头
USB插座，A型公座，USB2.0，90度插件焊接式; 料号: 10705-00016-00; 品名: 数据接口连接器
footprint USB2.0-A(公头)
pins: 1 VDD, 2 D-, 3 D+, 4 GND, 5 SHELL1, 6 SHELL2

## USB2.0-BF
designator J?, comment USB2.0，B母座
USB插座,B型母座,USB2.0,直立插件焊接式; 料号: 10705-00005-00; 品名: 数据接口连接器
pins: 1 VDD, 2 D-, 3 D+, 4 GND, 5 SHELL1, 6 SHELL2

## USB2.0-BF-90
designator J?, comment USB2.0，B母座
USB插座,B型母座,USB2.0,90度插件焊接式; 料号: 10705-00004-00; 品名: 数据接口连接器
footprint USB2.0-BF
pins: 1 VDD, 2 D-, 3 D+, 4 GND, 5 SHELL1, 6 SHELL2

## USB2.0-BF-90（贴片）
designator J?, comment USB2.0，B母座
USB插座,B型母座,USB2.0,90度贴片焊接式; 料号: 10705-00006-00; 品名: 数据接口连接器
pins: 1 VDD, 2 D-, 3 D+, 4 GND, 5 SHELL1, 6 SHELL2

## USB2.0-MICRO
designator J?, comment USB2.0，MICRO母座
USB插座,MICRO型母座,USB2.0; 料号: 10705-00007-00; 品名: 数据接口连接器
footprint USB2.0-MICRO (Footprint not found)
pins: 1 VBUS, 2 D-, 3 D+, 4 ID, 5 GND1, 6 GND2, 7 GND3, 8 GND4, 9 GND5

## USB2.0-MINI
designator J?, comment USB2.0，MINI母座
USB插座,MINI型母座,USB2.0; 料号: 10705-00008-00; 品名: 数据接口连接器
footprint USB2.0-MINI
pins: 1 VBUS, 2 D-, 3 D+, 4 ID, 5 GND1, 6 GND2, 7 GND3, 8 GND4, 9 GND5

## USB3.0-AF
designator J?, comment USB3.0，A母座
USB插座,A型母座,USB3.0; 料号: 10705-00009-00; 品名: 数据接口连接器
footprint USB3.0-AF
pins: 1 VBUS, 2 D-, 3 D+, 4 GND, 5 StdA_SSRX-, 6 StdA_SSRX+, 7 GND_DRAIN, 8 StdA_SSTX-, 9 StdA_SSTX+, 10 SHELL1, 11 SHELL2

## USB3.0-BF
designator J?, comment USB3.0，B母座
USB插座,B型母座,USB3.0; 料号: 10705-00010-00; 品名: 数据接口连接器
footprint USB3.0-BF
pins: 1 VBUS, 2 D-, 3 D+, 4 GND, 5 StdB_SSTX-, 6 StdB_SSTX+, 7 GND_DRAIN, 8 StdB_SSRX-, 9 StdB_SSRX+, 10 SHELL1, 11 SHELL2

## USB3.1-TYPE-C
designator J?, comment TYPE-C
USB插头，TYPE-C型公头，USB3.1，直立插件铆压式，主体不带PCB; 料号: 10705-00015-00; 品名: 数据接口连接器
footprint TYPE C
pins: 1 GND, 1 GND, 2 SSTXp1, 2 SSTXp2, 3 SSTXn1, 3 SSTXn2, 4 VBUS, 4 VBUS, 5 CC, 5 VCONN, 6 Dp1, 6 Dp1, 7 Dn1, 7 Dn1, 8 SBU1, 8 SBU2, 9 VBUS, 9 VBUS, 10 SSRXn2, 10 SSRXn1, 11 SSRXp2, 11 SSRXp1, 12 GND, 12 GND

## USBX2
designator J?, comment RJ45
USBX2,RJ45插座; 料号: 10705-00011-00; 品名: 数据接口连接器
footprint RJ45
pins: 1 TX+, 2 TX-, 3 RX+, 4 N/C, 5 N/C, 6 RX-, 7 N/C, 8 N/C

## W25Q64FVSSIG
designator U?
IC，W25Q64FVSSIG,SOP8; 料号: 10603-00005-7K; 品名: 存储器
footprint SOP8 (body:6mm)
pins: 1 CS, 2 DO/IO1, 3 WP/IO2, 4 GND, 5 DI/IO0, 6 CLK, 7 HOLD/IO3, 8 VCC

## W25x16-AVSIG
designator U?
IC，W25x16-AVSIG,SOP8; 料号: 10603-00004-7K; 品名: 存储器
footprint SOP8 (body:6mm)
pins: 1 CS, 2 DO, 3 WP, 4 GND, 5 DIO, 6 CLK, 7 HOLD, 8 VCC

## WRA1209S-3WR2
designator M?
DC-DC模块，MORNSUN WRA1209S-3WR2，IN:18-36VDC,OUT:+/-9VDC/160MA; 料号: 11101-00007-2L; 品名: DC-DC模块
footprint WRAS-3WR2 (金升阳电源模块)
pins: 1 GND, 2 VIN, 3 CTRL, 5 NC, 6 +VO, 7 0V, 8 -VO

## WRA2409S-3WR2
designator M?
DC-DC模块，MORNSUN WRA2409S-3WR2，IN:18-36VDC,OUT:+/-9VDC/160MA; 料号: 11101-00006-2L; 品名: DC-DC模块
footprint WRAS-3WR2 (金升阳电源模块)
pins: 1 GND, 2 VIN, 3 CTRL, 5 NC, 6 +VO, 7 0V, 8 -VO

## WRB2405Z--3WR2
designator M?
DC-DC模块，MORNSUN WRB2405Z--3WR2, IN:18-36VDC, OUT:5VDC/600MA; 料号: 11101-00001-2L; 品名: DC-DC模块
footprint WRB-3WR2 (电源模块)
pins: 1 VIN+, 2 VIN-, 4 VOUT-, 5 PUBLIC, 6 VOUT+

## X95840UV
designator U?
IC,X95840UV,50K数字电位器，TSSOP-20; 料号: 10611-00013-00; 品名: ASIC
footprint TSSOP20
pins: 1 RH3, 2 RL3, 3 RW3, 4 A2, 5 SCL, 6 SDA, 7 GND, 8 RW2, 9 RL2, 10 RH2, 11 RW1, 12 RL1, 13 RH1, 14 A0, 15 A1, 16 VCC, 17 WP, 18 RH0, 19 RL0, 20 RW0

## X-8.000MHZ
designator X?, comment 8.000MHZ
无源晶振，8.000MHZ，贴片2脚，5.0*3.2*1.2; 料号: 11401-00002-00; 品名: 无源晶振
pins: 1, 2

## X-11.0592MHZ-无源
designator X?, comment 11.0592MHZ
无源晶振TAL5032，11.0592MHZ，贴片2脚，5.0*3.2*1.2; 料号: 11401-00004-00; 品名: 无源晶振
pins: 1, 2

## X-11.0592MHZ（有源）
designator X?, comment 11.0592MHz
11.0592MHz,5032-2; 料号: 11402-00002-00; 品名: 有源晶振
footprint 5032-2
pins: 1, 2

## X-12.000MHZ
designator X?, comment 12.000MHZ
无源晶振，12.000MHZ，插件2脚，11.2*4.7*3.6; 料号: 11401-00001-00; 品名: 无源晶振
pins: 1, 2

## X-12.000MHZ-5032
designator X?, comment 12.000MHZ
无源晶振，12M，5032，2PIN; 料号: 11401-00003-00; 品名: 无源晶振
footprint 5032-2
pins: 1, 2

## XC6206P182MR
designator U?
XC6206P182MR,SOT23; 料号: 10604-00034-9K; 品名: 电源芯片
footprint SOT-23
pins: 1 VSS, 2 VOUT, 3 VIN

## XC6206P252MR
designator U?
IC,XC6206P252MR,SOT-23; 料号: 10604-00043-00; 品名: 电源芯片
footprint SOT-23
pins: 1 VSS, 2 VOUT, 3 VIN

## XC6206P302MR
designator U?
IC，XC6206P302MR，SOT-23; 料号: 10604-00001-9K; 品名: 电源芯片
footprint SOT-23
pins: 1 Vss, 2 Vout, 3 Vin

## XC6206P332MR
designator U?
XC6206P332MR,SOT23; 料号: 10604-00035-9K; 品名: 电源芯片
footprint SOT-23
pins: 1 VSS, 2 VOUT, 3 VIN

## XF2M-1415-1A
designator J?, comment 14P
FPC连接器-14P-0.5MM后翻盖; 料号: 10701-00110-41; 品名: 线对板连接器
pins: 1, 2, 3, 4, 5, 6, 7, 8, 9, 10, 11, 12, 13, 14

## XF2M-2015-1A
designator J?, comment 20P
FPC连接器-20P-0.5MM后翻盖; 料号: 10701-00076-41; 品名: 线对板连接器
footprint OMRON FPC连接器20PIN
pins: 1, 2, 3, 4, 5, 6, 7, 8, 9, 10, 11, 12, 13, 14, 15, 16, 17, 18, 19, 20

## XF2M-3015-1A
designator J?, comment 30P
FPC连接器-30P-0.5MM后翻盖; 料号: 10701-00072-41; 品名: 线对板连接器
footprint OMRON FPC连接器30PIN
pins: 1, 2, 3, 4, 5, 6, 7, 8, 9, 10, 11, 12, 13, 14, 15, 16, 17, 18, 19, 20, 21, 22, 23, 24, 25, 26, 27, 28, 29, 30

## XL1509-5.0
designator U?
IC，XL1509-5.0，SOP8; 料号: 10604-00009-00; 品名: 电源芯片
footprint SOP8 (body:6mm)
pins: 1 VIN, 2 OUTPUT, 3 FEEDBACK, 4 ON/OFF, 5 GND, 6 GND, 7 GND, 8 GND

## ZM4749A
designator D?
稳压二极管，ZM4749A，圆柱贴片; 料号: 10403-00006-00; 品名: 稳压二极管
pins: A, K

## ZR431F01
designator U?
IC，ZR431F01，SOT23; 料号: 10604-00019-4J; 品名: 电源芯片
footprint SOT-23
pins: 1 GND, 2 Vz, 3 Vref

## 数码管
designator D?, comment 共阳
数码管，红光，共阳，4位8段; 料号: 10406-00020-00; 品名: 发光二极管
footprint 数码管共阳
pins: 1 e, 2 d, 3 dp, 4 c, 5 g, 6 com1, 7 b, 8 com2, 9 com3, 10 f, 11 a, 12 com4